# Altium schematic symbol library DAC102S085CIMM.SchLib: 1 symbol
Pins are listed as number, name and electrical type; pins without a type are passive.

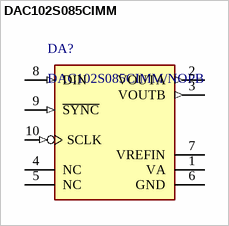
[diagram p0: symbol DAC102S085CIMM]

## DAC102S085CIMM
designator DA?, comment DAC102S085CIMM/NOPB
10-Bit Micro Power DUAL Digital-to-Analog Converter with Rail-to-Rail Output, 10-pin Mini SOIC, Pb-Free; Manufacturer: National Semiconductor; PackageTopMarking: ZXTT*X74C; CompType: D/A Converter; PowerWise: Y; PackageReference: MUB10A; ComponentLink1Description: DAC102S085 Datasheet; ComponentLink2Description: DAC102S085 Web Page; Code_JEDEC: MO-187-BA; ComponentLink1URL: http://www.national.com/ds/DA/DAC102S085.pdf; ComponentLink3URL: http://www.national.com/packaging/folders/mub10a.html; RevisionNote: Component URLs added; PackageVersion: revB, Jul-2003; PackageDescription: Mini-SO, Molded, .118 x .118 x .034in Body, 10 Lead, .0197in Pitch; PinCount: 10; ComponentLink2URL: http://www.national.com/pf/DA/DAC102S085.html; RoHS: Y; DatasheetVersion: Nov-2008; ComponentLink3Description: MUB10A Package Page
footprint MUB10A_N (TSSOP, 10-Leads, Body 3x3mm, Pitch 0.5mm, IPC Medium Density)
footprint MUB10A_L (TSSOP, 10-Leads, Body 3x3mm, Pitch 0.5mm, IPC High Density)
footprint MUB10A_M (TSSOP, 10-Leads, Body 3x3mm, Pitch 0.5mm, IPC Low Density)
pins: 1 VA (power), 2 VOUTA (out), 3 VOUTB (out), 4 NC, 5 NC, 6 GND (power), 7 VREFIN (power), 8 DIN (in), 9 ~{SYNC} (in), 10 SCLK (in)